# Altium schematic symbol library SW SLIDE SMALL.SchLib: 1 symbol
Pins are listed as number, name and electrical type; pins without a type are passive.

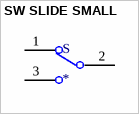
[diagram p0: symbol SW SLIDE SMALL]

## SW SLIDE SMALL
designator S
Slide Switch SPDT Surface Mount, Right Angle; MF: C&K; MP: JS102011SAQN; Availability: Unavailable; Price: None; SnapEDA_Link: https://www.snapeda.com/parts/JS102011SAQN/C%26K/view-part/214325/?ref=snap; Value: *; Package: None
footprint SW SLIDE SMALL (Footprint not found)
pins: 1, 2, 3